# Altium integrated library M50-3500642.IntLib: 2 symbols
Pins are listed as number, name and electrical type; pins without a type are passive.

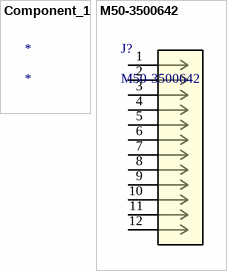
[diagram p0: symbols Component_1 to M50-3500642]

## Component_1
designator *

## M50-3500642
designator J?
No Description Available; Mfr_Name: Harwin; Copyright: Copyright (C) 2022 Ultra Librarian. All rights reserved.; Manufacturer_Part_Number: M50-3500642; RefDes: RefDes; Type: DEV
footprint CONN12_0-3500642_HRW
pins: 1, 2, 3, 4, 5, 6, 7, 8, 9, 10, 11, 12